# Altium footprint library dip_switch_03_960x930x545.PcbLib: 1 footprints
Each footprint in its own frame and in the unit in brackets; x right, y up, seen from the top. Pads: shape width x height; smd on the part's side, far side on the other; paste and mask are expansions set on the pad; w line width, h text height; cw(c..) or ccw(c..) is an arc to the next point about the centre after c.
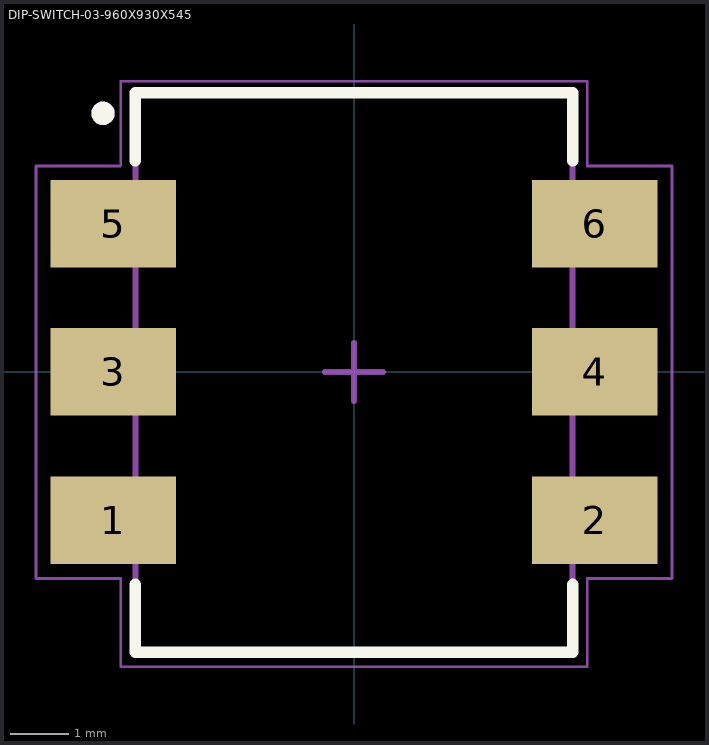
[diagram p0: the footprint, top view; thin cyan lines are the x and y axes]

## DIP-SWITCH-03-960X930X545 [mm]
height 5.45
pads (6):
  rect 2.15x1.5 smd: 1(-4.125,-2.54) 2(4.125,-2.54) 3(-4.125,0) 4(4.125,0) 5(-4.125,2.54) 6(4.125,2.54)
Top Overlay:
  circle w0.2: c-4.3,4.43 r0.1
  lines w0.2: -3.745,-3.64 -3.745,-4.8 3.745,-4.8 3.745,-3.64 ; -3.745,3.62 -3.745,4.78 3.745,4.78 3.745,3.62
Top Comment:
  text ".Comment" at 0.838,5.588 h1.2
Top Designator:
  text ".Designator" at -0.229,5.595 h1.2
Top Component Outline:
  circle w0.2: c-4.3,4.43 r0.1
  lines w0.1: -3.745,-4.8 3.745,-4.8 3.745,4.78 -3.745,4.78 -3.745,-4.8
Top Courtyard (Mech15):
  lines w0.05: -4,3.53 -5.45,3.53 -5.45,1 -5.45,-3.54 -3.995,-3.54 -3.995,-5.05 3.995,-5.05 3.995,-3.54 5.45,-3.54 5.45,1 5.45,3.53 3.995,3.53 3.995,4.98 -3.995,4.98 -3.995,3.535
  lines w0.1: -0.5,0 0.5,0 ; 0,-0.5 0,0.5
3D body "SDA03H1SBD.sldprt": height 5.5, standoff 0, extent -4.648,-4.801 4.652,4.8